# Altium footprint library Teststand.PcbLib: 2 footprints
Each footprint in its own frame and in the unit in brackets; x right, y up, seen from the top. Pads: shape width x height; smd on the part's side, far side on the other; paste and mask are expansions set on the pad; w line width, h text height; cw(c..) or ccw(c..) is an arc to the next point about the centre after c.
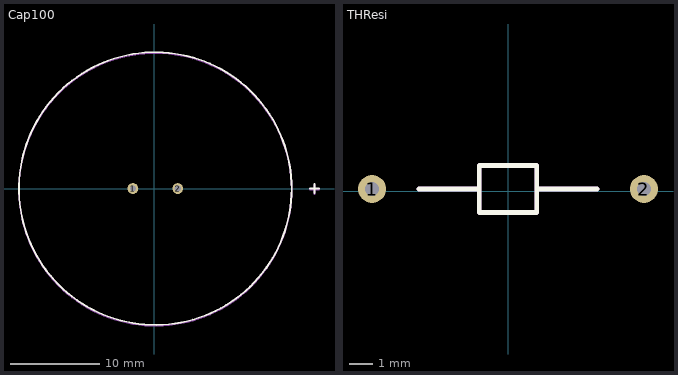
[diagram p0: the footprints below, top view; thin cyan lines are the x and y axes]

## Cap100 [mm]
pads (2):
  round 1.2 hole 0.7: 1(-2.4,0) 2(2.6,0)
Top Overlay:
  circle w0.2: c0.1,0 r15.2
  lines w0.2: 17.332,0 18.348,0 ; 17.84,-0.508 17.84,0.508
Top Assembly:
  circle w0.2: c0.1,-0.1 r15.2
  lines w0.2: 17.332,-0.1 18.348,-0.1 ; 17.84,-0.608 17.84,0.408
  text "'.Designator'" at -8.746,-0.538 h1.52
3D body "CAP_2135_12_5X20_VIS.step": height 22.01, standoff -4.37, extent -6.402,-6.499 6.638,6.499

## THResi [mm]
pads (2):
  round 1.2 hole 0.6: 1(-5.8,0.1) 2(5.8,0.1)
Top Overlay:
  lines w0.2: -3.8,0.1 -1.225,0.1 ; 1.225,0.1 3.8,0.1 ; -1.225,0.1 -1.225,-0.9 1.225,-0.9 1.225,1.1 -1.225,1.1 -1.225,0.1
Top Assembly:
  lines w0.2: -3.8,0.1 -1.225,0.1 ; 1.225,0.1 3.8,0.1 ; -1.225,0.1 -1.225,-0.9 1.225,-0.9 1.225,1.1 -1.225,1.1 -1.225,0.1
  text "'.Designator'" at -2.832,-0.183 h0.5
3D body "RES_CFR25_TYCO_TYC.step": height 2.48, standoff -2.54, extent -6.117,-1.142 6.039,1.342